# EAGLE library part AD9859 (library analog-devices)
CMOS Direct Digital Synthesizer 400 MSPS, 10-Bit, 1.8 V Source: www.analog.com/UploadedFiles/Data_Sheets/33830397585263AD9859_0.pdf
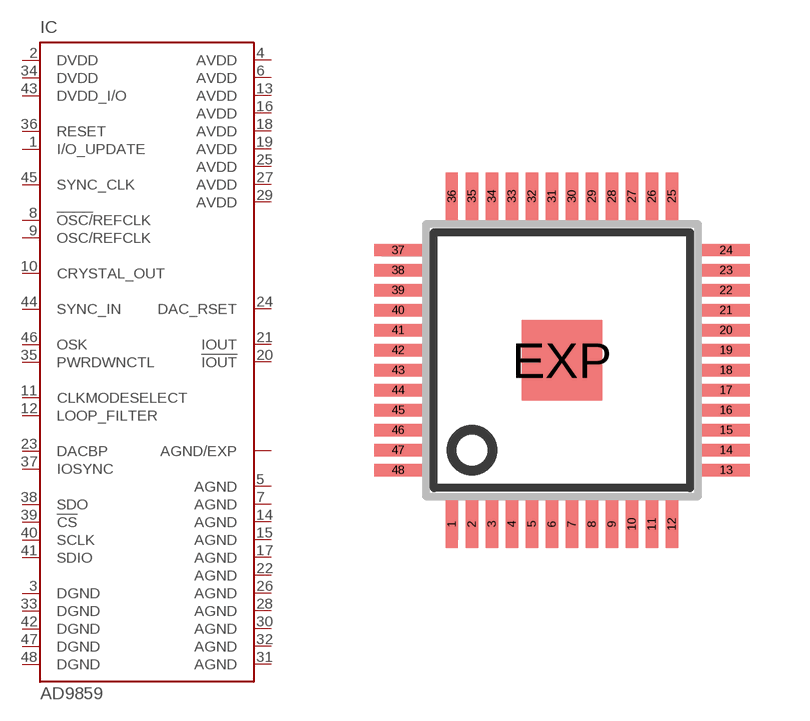
[diagram p119: symbol with the pads of QFP-7X7-48; footprint QFP-7X7-48]

Designator prefix IC

## AD9859 (MF: ALTERA CORPORATION; MPN: AD9859YSVZ; OC_FARNELL: 1438601; OC_NEWARK: 59K7492)  [QFP-7X7-48]
1  I/O_UPDATE  in
2  DVDD  in
3  DGND  in
4  AVDD  in
5  AGND  in
6  AVDD  in
7  AGND  in
8  !OSC/!REFCLK  in
9  OSC/REFCLK  in
10  CRYSTAL_OUT  out
11  CLKMODESELECT  in
12  LOOP_FILTER  in
13  AVDD  in
14  AGND  in
15  AGND  in
16  AVDD  in
17  AGND  in
18  AVDD  in
19  AVDD  in
20  !IOUT  out
21  IOUT  out
22  AGND  in
23  DACBP  in
24  DAC_RSET  in
25  AVDD  in
26  AGND  in
27  AVDD  in
28  AGND  in
29  AVDD  in
30  AGND  in
31  AGND  in
32  AGND  in
33  DGND  in
34  DVDD  in
35  PWRDWNCTL  in
36  RESET  in
37  IOSYNC  in
38  SDO  out
39  !CS  in
40  SCLK  in
41  SDIO
42  DGND  in
43  DVDD_I/O  in
44  SYNC_IN  in
45  SYNC_CLK  out
46  OSK  in
47  DGND  in
48  DGND  in
EXP  AGND/EXP  in

## Footprint QFP-7X7-48 (pad centres in mm)
TQFP48 7x7 Thin Plastic Quad Flat Package, Exposed Pad, TQFP/EP Source: www.analog.com/UploadedFiles/Data_Sheets/33830397585263AD9859_0.pdf
smd 0.3 x 1.2: 1 -2.75,-4.1; 2 -2.25,-4.1; 3 -1.75,-4.1; 4 -1.25,-4.1; 5 -0.75,-4.1; 6 -0.25,-4.1; 7 0.25,-4.1; 8 0.75,-4.1; 9 1.25,-4.1; 10 1.75,-4.1; 11 2.25,-4.1; 12 2.75,-4.1; 25 2.75,4.1; 26 2.25,4.1; 27 1.75,4.1; 28 1.25,4.1; 29 0.75,4.1; 30 0.25,4.1; 31 -0.25,4.1; 32 -0.75,4.1; 33 -1.25,4.1; 34 -1.75,4.1; 35 -2.25,4.1; 36 -2.75,4.1
smd 1.2 x 0.3: 13 4.1,-2.75; 14 4.1,-2.25; 15 4.1,-1.75; 16 4.1,-1.25; 17 4.1,-0.75; 18 4.1,-0.25; 19 4.1,0.25; 20 4.1,0.75; 21 4.1,1.25; 22 4.1,1.75; 23 4.1,2.25; 24 4.1,2.75; 37 -4.1,2.75; 38 -4.1,2.25; 39 -4.1,1.75; 40 -4.1,1.25; 41 -4.1,0.75; 42 -4.1,0.25; 43 -4.1,-0.25; 44 -4.1,-0.75; 45 -4.1,-1.25; 46 -4.1,-1.75; 47 -4.1,-2.25; 48 -4.1,-2.75
smd 2 x 2: EXP 0,0